# EAGLE library part LTC2990 (library LTC2990)
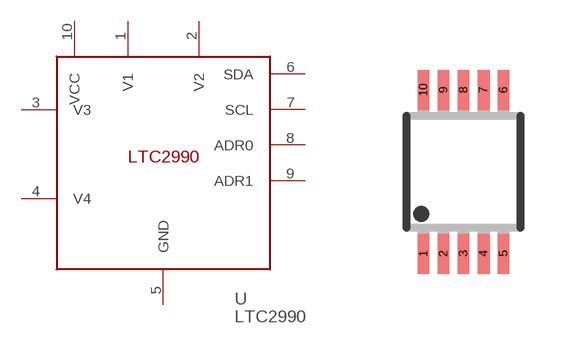
[diagram p0: symbol with the pads of MSOP10; footprint MSOP10]

Designator prefix -

## LTC2990  [MSOP10]
1  V1
2  V2
3  V3
4  V4
5  GND
6  SDA
7  SCL
8  ADR0
9  ADR1
10  VCC

## Footprint MSOP10 (pad centres in mm)
10 Lead Platic MSOP Source: http://www.linear.com .. LT1996
smd 0.3 x 1: 1 -1,-2.05; 2 -0.5,-2.05; 3 0,-2.05; 4 0.5,-2.05; 5 1,-2.05; 6 1,2.05; 7 0.5,2.05; 8 0,2.05; 9 -0.5,2.05; 10 -1,2.05